# EAGLE library part STM32F103ZEH7 (library circuit_tree)
IC
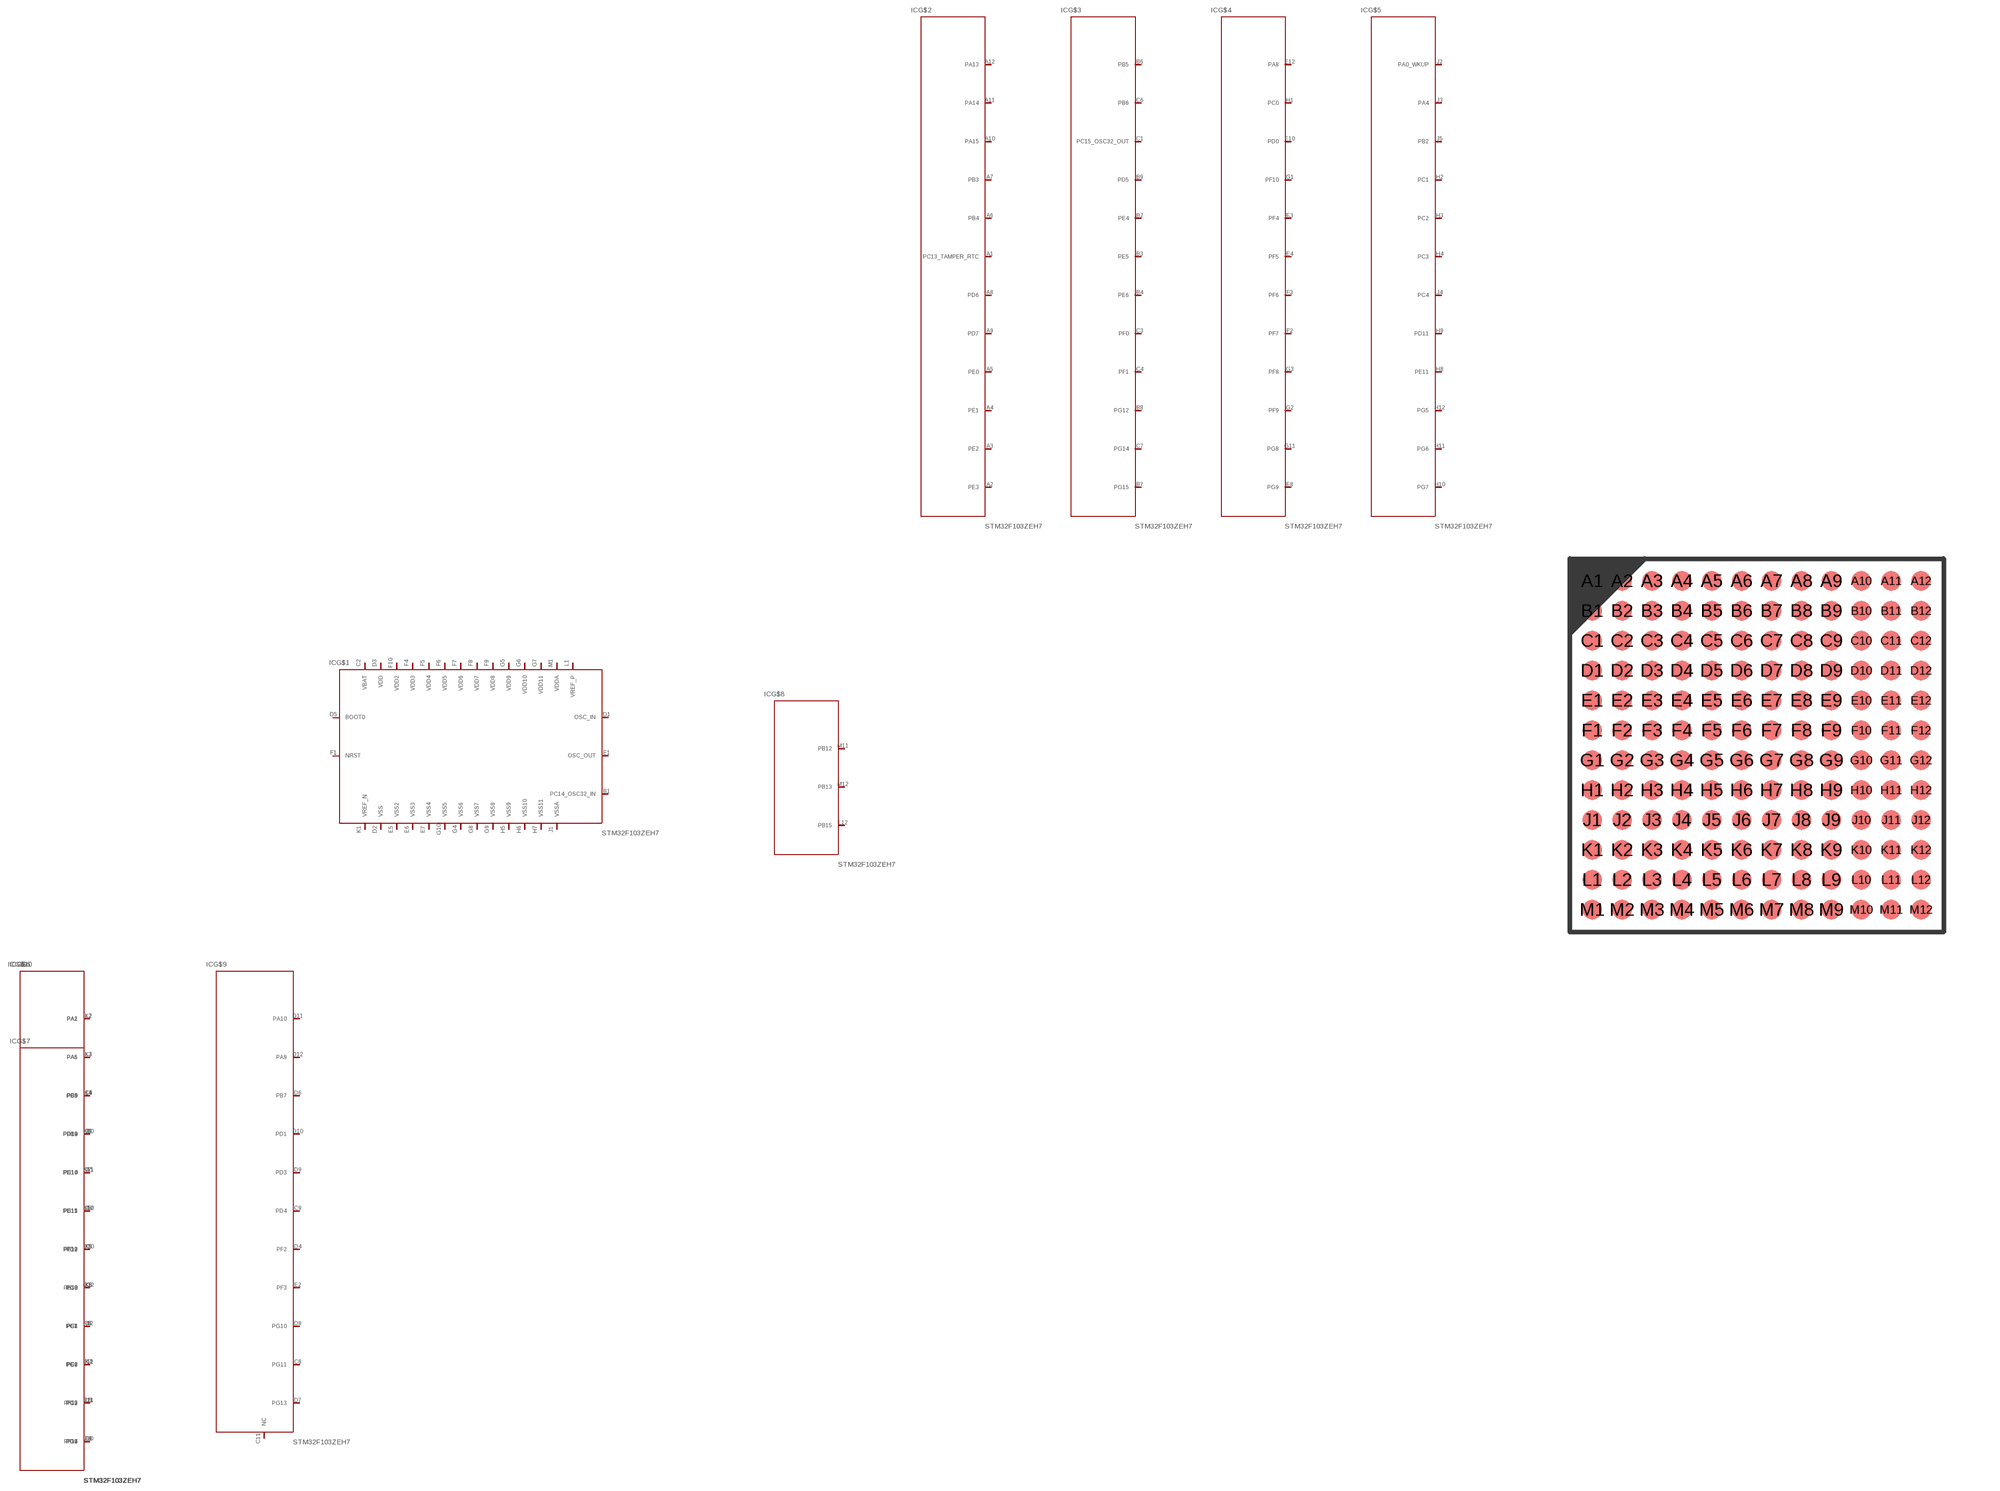
[diagram p6: symbol with the pads of LFBGA144; footprint LFBGA144]

Designator prefix IC; gates G$1=STM32F103ZEH7 G$2=STM32F103ZEH72 G$3=STM32F103ZEH73 G$4=STM32F103ZEH74 G$5=STM32F103ZEH75 G$6=STM32F103ZEH76 G$7=STM32F103ZEH77 G$8=STM32F103ZEH78 G$9=STM32F103ZEH79 G$10=STM32F103ZEH710

## STM32F103ZEH7  [LFBGA144]
A1  G$2:PC13_TAMPER_RTC  pas
A2  G$2:PE3  pas
A3  G$2:PE2  pas
A4  G$2:PE1  pas
A5  G$2:PE0  pas
A6  G$2:PB4  pas
A7  G$2:PB3  pas
A8  G$2:PD6  pas
A9  G$2:PD7  pas
A10  G$2:PA15  pas
A11  G$2:PA14  pas
A12  G$2:PA13  pas
B1  G$1:PC14_OSC32_IN  pas
B2  G$3:PE4  pas
B3  G$3:PE5  pas
B4  G$3:PE6  pas
B5  G$7:PB9  pas
B6  G$3:PB5  pas
B7  G$3:PG15  pas
B8  G$3:PG12  pas
B9  G$3:PD5  pas
B10  G$7:PC11  pas
B11  G$7:PC10  pas
C1  G$3:PC15_OSC32_OUT  pas
C2  G$1:VBAT  pas
C3  G$3:PF0  pas
C4  G$3:PF1  pas
C5  G$7:PB8  pas
C6  G$3:PB6  pas
C7  G$3:PG14  pas
C8  G$9:PG11  pas
C9  G$9:PD4  pas
C10  G$7:PC12  pas
C11  G$9:NC  pas
D1  G$1:OSC_IN  pas
D2  G$1:VSS  pas
D3  G$1:VDD  pas
D4  G$9:PF2  pas
D5  G$1:BOOT0  pas
D6  G$9:PB7  pas
D7  G$9:PG13  pas
D8  G$9:PG10  pas
D9  G$9:PD3  pas
D10  G$9:PD1  pas
D11  G$9:PA10  pas
D12  G$9:PA9  pas
E1  G$1:OSC_OUT  pas
E2  G$9:PF3  pas
E3  G$4:PF4  pas
E4  G$4:PF5  pas
E5  G$1:VSS2  pas
E6  G$1:VSS3  pas
E7  G$1:VSS4  pas
E8  G$4:PG9  pas
E9  G$7:PD2  pas
E10  G$4:PD0  pas
E11  G$7:PC9  pas
E12  G$4:PA8  pas
F1  G$1:NRST  pas
F2  G$4:PF7  pas
F3  G$4:PF6  pas
F4  G$1:VDD3  pas
F5  G$1:VDD4  pas
F6  G$1:VDD5  pas
F7  G$1:VDD6  pas
F8  G$1:VDD7  pas
F9  G$1:VDD8  pas
F10  G$1:VDD2  pas
F11  G$7:PC8  pas
F12  G$7:PC7  pas
G1  G$4:PF10  pas
G2  G$4:PF9  pas
G3  G$4:PF8  pas
G4  G$1:VSS6  pas
G5  G$1:VDD9  pas
G6  G$1:VDD10  pas
G7  G$1:VDD11  pas
G8  G$1:VSS7  pas
G9  G$1:VSS8  pas
G10  G$1:VSS5  pas
G11  G$4:PG8  pas
G12  G$7:PC6  pas
H1  G$4:PC0  pas
H2  G$5:PC1  pas
H3  G$5:PC2  pas
H4  G$5:PC3  pas
H5  G$1:VSS9  pas
H6  G$1:VSS10  pas
H7  G$1:VSS11  pas
H8  G$5:PE11  pas
H9  G$5:PD11  pas
H10  G$5:PG7  pas
H11  G$5:PG6  pas
H12  G$5:PG5  pas
J1  G$1:VSSA  pas
J2  G$5:PA0_WKUP  pas
J3  G$5:PA4  pas
J4  G$5:PC4  pas
J5  G$5:PB2  pas
J6  G$10:PG1  pas
J7  G$10:PE10  pas
J8  G$10:PE12  pas
J9  G$10:PD10  pas
J10  G$10:PG4  pas
J11  G$10:PG3  pas
J12  G$10:PG2  pas
K1  G$1:VREF_N  pas
K2  G$10:PA1  pas
K3  G$10:PA5  pas
K4  G$10:PC5  pas
K5  G$10:PF13  pas
K6  G$10:PG0  pas
K7  G$6:PE9  pas
K8  G$6:PE13  pas
K9  G$6:PD9  pas
K10  G$6:PD13  pas
K11  G$6:PD14  pas
K12  G$6:PD15  pas
L1  G$1:VREF_P  pas
L2  G$6:PA2  pas
L3  G$6:PA6  pas
L4  G$6:PB0  pas
L5  G$6:PF12  pas
L6  G$6:PF15  pas
L7  G$6:PE8  pas
L12  G$8:PB15  pas
M1  G$1:VDDA  pas
M11  G$8:PB12  pas
M12  G$8:PB13  pas

## Footprint LFBGA144 (pad centres in mm)
LFBGA144 10 x 10 mm, 12 x 12-pin low profil 0.8 mm pitch ball grid array package
smd 0.52 x 0.52: A1 -4.4,4.4; A2 -3.6,4.4; A3 -2.8,4.4; A4 -2,4.4; A5 -1.2,4.4; A6 -0.4,4.4; A7 0.4,4.4; A8 1.2,4.4; A9 2,4.4; A10 2.8,4.4; A11 3.6,4.4; A12 4.4,4.4; B1 -4.4,3.6; B2 -3.6,3.6; B3 -2.8,3.6; B4 -2,3.6; B5 -1.2,3.6; B6 -0.4,3.6; B7 0.4,3.6; B8 1.2,3.6; B9 2,3.6; B10 2.8,3.6; B11 3.6,3.6; B12 4.4,3.6; C1 -4.4,2.8; C2 -3.6,2.8; C3 -2.8,2.8; C4 -2,2.8; C5 -1.2,2.8; C6 -0.4,2.8; C7 0.4,2.8; C8 1.2,2.8; C9 2,2.8; C10 2.8,2.8; C11 3.6,2.8; C12 4.4,2.8; D1 -4.4,2; D2 -3.6,2; D3 -2.8,2; D4 -2,2; D5 -1.2,2; D6 -0.4,2; D7 0.4,2; D8 1.2,2; D9 2,2; D10 2.8,2; D11 3.6,2; D12 4.4,2; E1 -4.4,1.2; E2 -3.6,1.2; E3 -2.8,1.2; E4 -2,1.2; E5 -1.2,1.2; E6 -0.4,1.2; E7 0.4,1.2; E8 1.2,1.2; E9 2,1.2; E10 2.8,1.2; E11 3.6,1.2; E12 4.4,1.2; F1 -4.4,0.4; F2 -3.6,0.4; F3 -2.8,0.4; F4 -2,0.4; F5 -1.2,0.4; F6 -0.4,0.4; F7 0.4,0.4; F8 1.2,0.4; F9 2,0.4; F10 2.8,0.4; F11 3.6,0.4; F12 4.4,0.4; G1 -4.4,-0.4; G2 -3.6,-0.4; G3 -2.8,-0.4; G4 -2,-0.4; G5 -1.2,-0.4; G6 -0.4,-0.4; G7 0.4,-0.4; G8 1.2,-0.4; G9 2,-0.4; G10 2.8,-0.4; G11 3.6,-0.4; G12 4.4,-0.4; H1 -4.4,-1.2; H2 -3.6,-1.2; H3 -2.8,-1.2; H4 -2,-1.2; H5 -1.2,-1.2; H6 -0.4,-1.2; H7 0.4,-1.2; H8 1.2,-1.2; H9 2,-1.2; H10 2.8,-1.2; H11 3.6,-1.2; H12 4.4,-1.2; J1 -4.4,-2; J2 -3.6,-2; J3 -2.8,-2; J4 -2,-2; J5 -1.2,-2; J6 -0.4,-2; J7 0.4,-2; J8 1.2,-2; J9 2,-2; J10 2.8,-2; J11 3.6,-2; J12 4.4,-2; K1 -4.4,-2.8; K2 -3.6,-2.8; K3 -2.8,-2.8; K4 -2,-2.8; K5 -1.2,-2.8; K6 -0.4,-2.8; K7 0.4,-2.8; K8 1.2,-2.8; K9 2,-2.8; K10 2.8,-2.8; K11 3.6,-2.8; K12 4.4,-2.8; L1 -4.4,-3.6; L2 -3.6,-3.6; L3 -2.8,-3.6; L4 -2,-3.6; L5 -1.2,-3.6; L6 -0.4,-3.6; L7 0.4,-3.6; L8 1.2,-3.6; L9 2,-3.6; L10 2.8,-3.6; L11 3.6,-3.6; L12 4.4,-3.6; M1 -4.4,-4.4; M2 -3.6,-4.4; M3 -2.8,-4.4; M4 -2,-4.4; M5 -1.2,-4.4; M6 -0.4,-4.4; M7 0.4,-4.4; M8 1.2,-4.4; M9 2,-4.4; M10 2.8,-4.4; M11 3.6,-4.4; M12 4.4,-4.4